# Altium schematic symbol library ufl.SchLib: 1 symbol
Pins are listed as number, name and electrical type; pins without a type are passive.

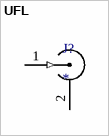
[diagram p0: symbol UFL]

## UFL
designator J?
pins: 1 (in), 2 (power)